# EAGLE library part 218-4LPSTJRF (library SamacSys_Parts)
SWITCH SLIDE DIP SPST 25MA 24V Source: Datasheet <https://www.ctscorp.com/wp-content/uploads/218.pdf>
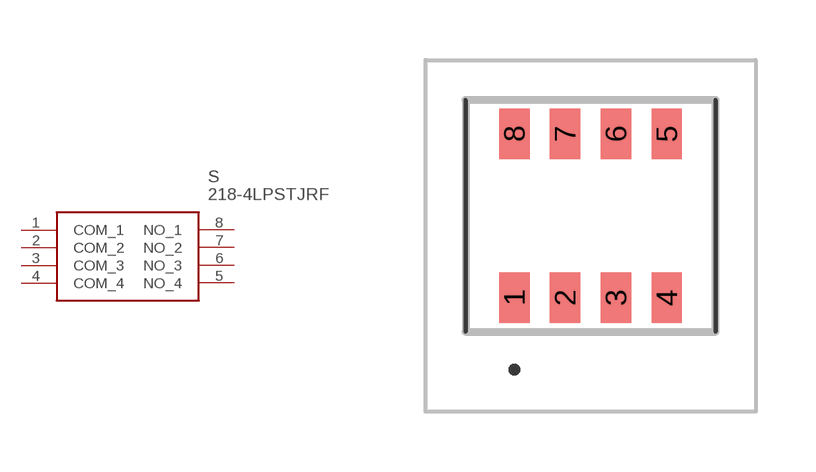
[diagram p121: symbol with the pads of 2184LPSTJRF; footprint 2184LPSTJRF]

Designator prefix S

## 218-4LPSTJRF (DESCRIPTION: SWITCH SLIDE DIP SPST 25MA 24V; HEIGHT: 2.7mm; MANUFACTURER_NAME: CTS; MANUFACTURER_PART_NUMBER: 218-4LPSTJRF; MOUSER_PART_NUMBER: 774-218-4LPSTJRF; MOUSER_PRICE-STOCK: https://www.mouser.co.uk/ProductDetail/CTS-Electronic-Components/218-4LPSTJRF?qs=6E8igxPflKcofnEJZWfCHQ%3D%3D)  [2184LPSTJRF]
1  COM_1
2  COM_2
3  COM_3
4  COM_4
5  NO_4
6  NO_3
7  NO_2
8  NO_1

## Footprint 2184LPSTJRF (pad centres in mm)
218-4LPSTJRF-2
smd 0.76 x 1.27: 1 -1.905,-2.05; 2 -0.635,-2.05; 3 0.635,-2.05; 4 1.905,-2.05; 5 1.905,2.05; 6 0.635,2.05; 7 -0.635,2.05; 8 -1.905,2.05